# Altium schematic symbol library MS35775.SchLib: 1 symbol
Pins are listed as number, name and electrical type; pins without a type are passive.

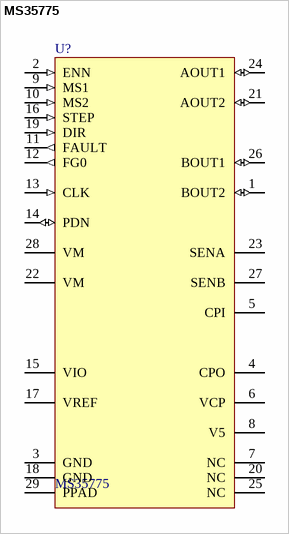
[diagram p0: symbol MS35775]

## MS35775
designator U?
Low noise 256 subdivision microstepping motor driver.
pins: 1 BOUT2 (io), 2 ENN (in), 3 GND (power), 4 CPO (power), 5 CPI (power), 6 VCP (power), 7 NC, 8 V5 (power), 9 MS1 (in), 10 MS2 (in), 11 FAULT (out), 12 FG0 (out), 13 CLK (in), 14 PDN (io), 15 VIO (power), 16 STEP (in), 17 VREF (power), 18 GND (power), 19 DIR (in), 20 NC, 21 AOUT2 (io), 22 VM (power), 23 SENA, 24 AOUT1 (io), 25 NC, 26 BOUT1 (io), 27 SENB, 28 VM (power), 29 PPAD (power)